# Altium footprint library PLS-xx.PcbLib: 32 footprints (part 2 of 2)
Each footprint in its own frame and in the unit in brackets; x right, y up, seen from the top. Pads: shape width x height; smd on the part's side, far side on the other; paste and mask are expansions set on the pad; w line width, h text height; cw(c..) or ccw(c..) is an arc to the next point about the centre after c.
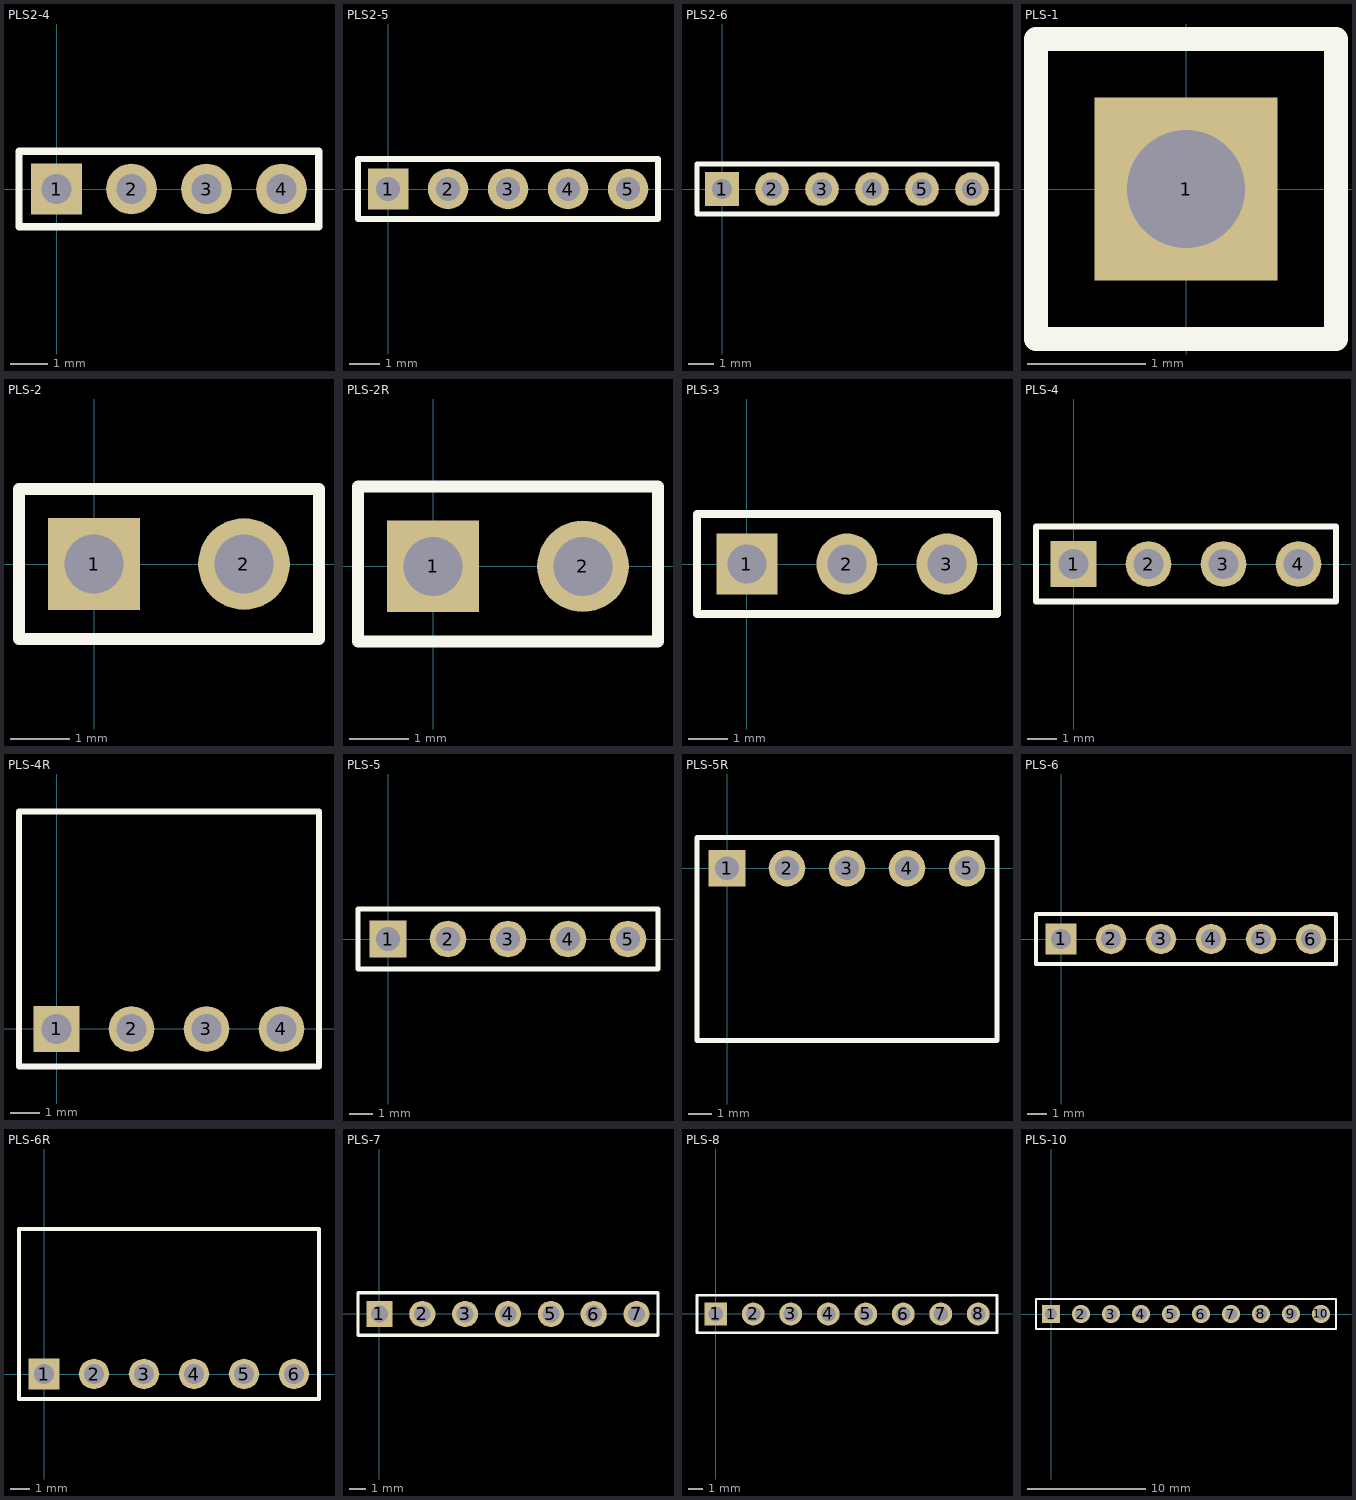
[diagram p1: the footprints below, top view; thin cyan lines are the x and y axes]

## PLS2-4 [mm]
pads (4):
  rect 1.35x1.35 hole 0.8: 1(0,0)
  round 1.35 hole 0.8: 2(2,0) 3(4,0) 4(6,0)
Top Overlay:
  lines w0.2: -1,-1 7,-1 7,1 -1,1 -1,-1
3D body "User Library-pls2-1.step": height 6, standoff -2.8, extent 5,-1 7,1
3D body "User Library-pls2-1.step": height 6, standoff -2.8, extent 3,-1 5,1
3D body "User Library-pls2-1.step": height 6, standoff -2.8, extent 1,-1 3,1
3D body "User Library-pls2-1.step": height 6, standoff -2.8, extent -1,-1 1,1

## PLS2-5 [mm]
pads (5):
  rect 1.35x1.35 hole 0.8: 1(0,0)
  round 1.35 hole 0.8: 2(2,0) 3(4,0) 4(6,0) 5(8,0)
Top Overlay:
  lines w0.2: -1,-1 9,-1 9,1 -1,1 -1,-1
3D body "User Library-pls2-1.step": height 6, standoff -2.8, extent 5,-1 7,1
3D body "User Library-pls2-1.step": height 6, standoff -2.8, extent 3,-1 5,1
3D body "User Library-pls2-1.step": height 6, standoff -2.8, extent 1,-1 3,1
3D body "User Library-pls2-1.step": height 6, standoff -2.8, extent -1,-1 1,1
3D body "User Library-pls2-1.step": height 6, standoff -2.8, extent 7,-1 9,1

## PLS2-6 [mm]
pads (6):
  rect 1.35x1.35 hole 0.8: 1(0,0)
  round 1.35 hole 0.8: 2(2,0) 3(4,0) 4(6,0) 5(8,0) 6(10,0)
Top Overlay:
  lines w0.2: -1,-1 -1,1 11,1 11,-1 -1,-1
3D body "User Library-pls2-1.step": height 6, standoff -2.8, extent -1,-1 1,1
3D body "User Library-pls2-1.step": height 6, standoff -2.8, extent 1,-1 3,1
3D body "User Library-pls2-1.step": height 6, standoff -2.8, extent 3,-1 5,1
3D body "User Library-pls2-1.step": height 6, standoff -2.8, extent 5,-1 7,1
3D body "User Library-pls2-1.step": height 6, standoff -2.8, extent 7,-1 9,1
3D body "User Library-pls2-1.step": height 6, standoff -2.8, extent 9,-1 11,1

## PLS-1 [mm]
pads (1):
  rect 1.55x1.55 hole 1: 1(0,0)
Top Overlay:
  lines w0.2: -1.27,-1.27 -1.27,1.27 1.27,1.27 1.27,-1.27 -1.27,-1.27
3D body "User Library-PLS-1.step": height 3, standoff -8.44, extent -1.27,-1.27 1.27,1.27

## PLS-2 [mm]
pads (2):
  rect 1.55x1.55 hole 1: 1(0,0)
  round 1.55 hole 1: 2(2.54,0)
Top Overlay:
  lines w0.2: -1.27,-1.27 3.81,-1.27 3.81,1.27 -1.27,1.27 -1.27,-1.27
3D body "User Library-PLS-1.step": height 8.44, standoff -3, extent 1.27,-1.27 3.81,1.27
3D body "User Library-PLS-1.step": height 8.44, standoff -3, extent -1.27,-1.27 1.27,1.27

## PLS-2R [mm]
pads (2):
  rect 1.55x1.55 hole 1: 1(0,0)
  round 1.55 hole 1: 2(2.54,0)
Top Overlay:
  lines w0.2: -1.27,-1.27 -1.27,1.35 3.81,1.35 3.81,-1.27 -1.27,-1.27
3D body "User Library-PLS-1R.step": height 5.45, standoff -3, extent -1.27,-1.27 1.27,7.35
3D body "User Library-PLS-1R.step": height 5.45, standoff -3, extent 1.27,-1.27 3.81,7.35

## PLS-3 [mm]
pads (3):
  rect 1.55x1.55 hole 1: 1(0,0)
  round 1.55 hole 1: 2(2.54,0) 3(5.08,0)
Top Overlay:
  lines w0.2: -1.27,-1.27 -1.27,1.27 6.35,1.27 6.35,-1.27 -1.27,-1.27
3D body "User Library-PLS-1.step": height 8.44, standoff -3, extent 3.81,-1.27 6.35,1.27
3D body "User Library-PLS-1.step": height 8.44, standoff -3, extent -1.27,-1.27 1.27,1.27
3D body "User Library-PLS-1.step": height 8.44, standoff -3, extent 1.27,-1.27 3.81,1.27

## PLS-4 [mm]
pads (4):
  rect 1.55x1.55 hole 1: 1(0,0)
  round 1.55 hole 1: 2(2.54,0) 3(5.08,0) 4(7.62,0)
Top Overlay:
  lines w0.2: -1.27,-1.27 -1.27,1.27 8.89,1.27 8.89,-1.27 -1.27,-1.27
3D body "User Library-PLS-1.step": height 8.44, standoff -3, extent -1.27,-1.27 1.27,1.27
3D body "User Library-PLS-1.step": height 8.44, standoff -3, extent 1.27,-1.27 3.81,1.27
3D body "User Library-PLS-1.step": height 8.44, standoff -3, extent 3.81,-1.27 6.35,1.27
3D body "User Library-PLS-1.step": height 8.44, standoff -3, extent 6.35,-1.27 8.89,1.27

## PLS-4R [mm]
pads (4):
  rect 1.55x1.55 hole 1: 1(0,0)
  round 1.55 hole 1: 2(2.54,0) 3(5.08,0) 4(7.62,0)
Top Overlay:
  lines w0.2: -1.27,-1.27 -1.27,7.366 8.89,7.366 8.89,-1.27 -1.27,-1.27
3D body "User Library-PLS-1R.step": height 5.45, standoff -3, extent 6.35,-1.27 8.89,7.35
3D body "User Library-PLS-1R.step": height 5.45, standoff -3, extent 3.81,-1.27 6.35,7.35
3D body "User Library-PLS-1R.step": height 5.45, standoff -3, extent 1.27,-1.27 3.81,7.35
3D body "User Library-PLS-1R.step": height 5.45, standoff -3, extent -1.27,-1.27 1.27,7.35

## PLS-5 [mm]
pads (5):
  rect 1.55x1.55 hole 1: 1(0,0)
  round 1.55 hole 1: 2(2.54,0) 3(5.08,0) 4(7.62,0) 5(10.16,0)
Top Overlay:
  lines w0.2: -1.27,-1.27 -1.27,1.27 11.43,1.27 11.43,-1.27 -1.27,-1.27
3D body "User Library-PLS-1.step": height 8.44, standoff -3, extent -1.27,-1.27 1.27,1.27
3D body "User Library-PLS-1.step": height 8.44, standoff -3, extent 1.27,-1.27 3.81,1.27
3D body "User Library-PLS-1.step": height 8.44, standoff -3, extent 3.81,-1.27 6.35,1.27
3D body "User Library-PLS-1.step": height 8.44, standoff -3, extent 6.35,-1.27 8.89,1.27
3D body "User Library-PLS-1.step": height 8.44, standoff -3, extent 8.89,-1.27 11.43,1.27

## PLS-5R [mm]
pads (5):
  rect 1.55x1.55 hole 1: 1(0,0)
  round 1.55 hole 1: 2(2.54,0) 3(5.08,0) 4(7.62,0) 5(10.16,0)
Top Overlay:
  lines w0.2: -1.27,-7.3 11.43,-7.3 11.43,1.3 -1.27,1.3 -1.27,-7.3
3D body "User Library-PLS-1R.step": height 5.45, standoff -3, extent -1.27,-7.35 1.27,1.27
3D body "User Library-PLS-1R.step": height 5.45, standoff -3, extent 1.27,-7.35 3.81,1.27
3D body "User Library-PLS-1R.step": height 5.45, standoff -3, extent 3.81,-7.35 6.35,1.27
3D body "User Library-PLS-1R.step": height 5.45, standoff -3, extent 6.35,-7.35 8.89,1.27
3D body "User Library-PLS-1R.step": height 5.45, standoff -3, extent 8.89,-7.35 11.43,1.27

## PLS-6 [mm]
pads (6):
  rect 1.55x1.55 hole 1: 1(0,0)
  round 1.55 hole 1: 2(2.54,0) 3(5.08,0) 4(7.62,0) 5(10.16,0) 6(12.7,0)
Top Overlay:
  lines w0.2: -1.27,-1.27 13.97,-1.27 13.97,1.27 -1.27,1.27 -1.27,-1.27
3D body "User Library-PLS-1.step": height 8.44, standoff -3, extent 11.43,-1.27 13.97,1.27
3D body "User Library-PLS-1.step": height 8.44, standoff -3, extent 8.89,-1.27 11.43,1.27
3D body "User Library-PLS-1.step": height 8.44, standoff -3, extent 6.35,-1.27 8.89,1.27
3D body "User Library-PLS-1.step": height 8.44, standoff -3, extent 3.81,-1.27 6.35,1.27
3D body "User Library-PLS-1.step": height 8.44, standoff -3, extent 1.27,-1.27 3.81,1.27
3D body "User Library-PLS-1.step": height 8.44, standoff -3, extent -1.27,-1.27 1.27,1.27

## PLS-6R [mm]
pads (6):
  rect 1.55x1.55 hole 1: 1(0,0)
  round 1.55 hole 1: 2(2.54,0) 3(5.08,0) 4(7.62,0) 5(10.16,0) 6(12.7,0)
Top Overlay:
  lines w0.2: -1.27,-1.27 -1.27,7.366 13.97,7.366 13.97,-1.27 -1.27,-1.27
3D body "User Library-PLS-1R.step": height 5.45, standoff -3, extent 8.89,-1.27 11.43,7.35
3D body "User Library-PLS-1R.step": height 5.45, standoff -3, extent 6.35,-1.27 8.89,7.35
3D body "User Library-PLS-1R.step": height 5.45, standoff -3, extent 3.81,-1.27 6.35,7.35
3D body "User Library-PLS-1R.step": height 5.45, standoff -3, extent 1.27,-1.27 3.81,7.35
3D body "User Library-PLS-1R.step": height 5.45, standoff -3, extent -1.27,-1.27 1.27,7.35
3D body "User Library-PLS-1R.step": height 5.45, standoff -3, extent 11.43,-1.27 13.97,7.35

## PLS-7 [mm]
pads (7):
  rect 1.55x1.55 hole 1: 1(0,0)
  round 1.55 hole 1: 2(2.54,0) 3(5.08,0) 4(7.62,0) 5(10.16,0) 6(12.7,0) 7(15.24,0)
Top Overlay:
  lines w0.2: -1.27,-1.27 16.51,-1.27 16.51,1.27 -1.27,1.27 -1.27,-1.27
3D body "User Library-PLS-1.step": height 8.44, standoff -3, extent 13.97,-1.27 16.51,1.27
3D body "User Library-PLS-1.step": height 8.44, standoff -3, extent 11.43,-1.27 13.97,1.27
3D body "User Library-PLS-1.step": height 8.44, standoff -3, extent 8.89,-1.27 11.43,1.27
3D body "User Library-PLS-1.step": height 8.44, standoff -3, extent 6.35,-1.27 8.89,1.27
3D body "User Library-PLS-1.step": height 8.44, standoff -3, extent 3.81,-1.27 6.35,1.27
3D body "User Library-PLS-1.step": height 8.44, standoff -3, extent 1.27,-1.27 3.81,1.27
3D body "User Library-PLS-1.step": height 8.44, standoff -3, extent -1.27,-1.27 1.27,1.27

## PLS-8 [mm]
pads (8):
  rect 1.55x1.55 hole 1: 1(0,0)
  round 1.55 hole 1: 2(2.54,0) 3(5.08,0) 4(7.62,0) 5(10.16,0) 6(12.7,0) 7(15.24,0) 8(17.78,0)
Top Overlay:
  lines w0.2: -1.27,-1.27 -1.27,1.27 19.05,1.27 19.05,-1.27 -1.27,-1.27
3D body "User Library-PLS-1.step": height 8.44, standoff -3, extent -1.27,-1.27 1.27,1.27
3D body "User Library-PLS-1.step": height 8.44, standoff -3, extent 1.27,-1.27 3.81,1.27
3D body "User Library-PLS-1.step": height 8.44, standoff -3, extent 3.81,-1.27 6.35,1.27
3D body "User Library-PLS-1.step": height 8.44, standoff -3, extent 6.35,-1.27 8.89,1.27
3D body "User Library-PLS-1.step": height 8.44, standoff -3, extent 8.89,-1.27 11.43,1.27
3D body "User Library-PLS-1.step": height 8.44, standoff -3, extent 11.43,-1.27 13.97,1.27
3D body "User Library-PLS-1.step": height 8.44, standoff -3, extent 13.97,-1.27 16.51,1.27
3D body "User Library-PLS-1.step": height 8.44, standoff -3, extent 16.51,-1.27 19.05,1.27

## PLS-10 [mm]
pads (10):
  rect 1.55x1.55 hole 1: 1(0,0)
  round 1.55 hole 1: 2(2.54,0) 3(5.08,0) 4(7.62,0) 5(10.16,0) 6(12.7,0) 7(15.24,0) 8(17.78,0) 9(20.32,0) 10(22.861,0)
Top Overlay:
  lines w0.2: 24.13,-1.27 24.13,1.27 ; 24.131,-1.27 -1.27,-1.27 -1.27,1.27 24.131,1.27
3D body "User Library-PLS-1.step": height 8.44, standoff -3, extent 16.51,-1.27 19.05,1.27
3D body "User Library-PLS-1.step": height 8.44, standoff -3, extent 13.97,-1.27 16.51,1.27
3D body "User Library-PLS-1.step": height 8.44, standoff -3, extent 11.43,-1.27 13.97,1.27
3D body "User Library-PLS-1.step": height 8.44, standoff -3, extent 8.89,-1.27 11.43,1.27
3D body "User Library-PLS-1.step": height 8.44, standoff -3, extent 6.35,-1.27 8.89,1.27
3D body "User Library-PLS-1.step": height 8.44, standoff -3, extent 3.81,-1.27 6.35,1.27
3D body "User Library-PLS-1.step": height 8.44, standoff -3, extent 1.27,-1.27 3.81,1.27
3D body "User Library-PLS-1.step": height 8.44, standoff -3, extent -1.27,-1.27 1.27,1.27
3D body "User Library-PLS-1.step": height 8.44, standoff -3, extent 19.051,-1.27 21.591,1.27
3D body "User Library-PLS-1.step": height 8.44, standoff -3, extent 21.591,-1.27 24.131,1.27